# EAGLE library part IRF7809 (library paparazzi3)
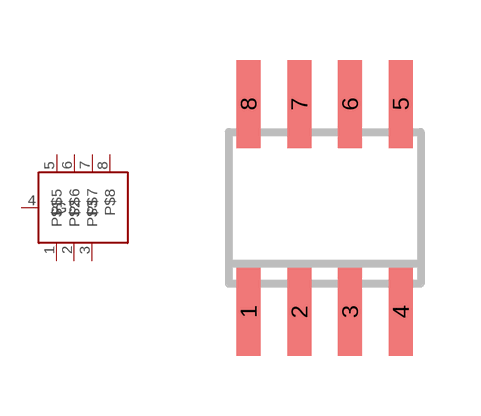
[diagram p14: symbol with the pads of SO08; footprint SO08]

Designator prefix -

## IRF7809  [SO08]
1  P$1
2  P$2
3  P$3
4  G
5  P$5
6  P$6
7  P$7
8  P$8

## Footprint SO08 (pad centres in mm)
Small Outline Package 8
smd 0.6 x 2.2: 1 -1.905,-2.6; 2 -0.635,-2.6; 3 0.635,-2.6; 4 1.905,-2.6; 5 1.905,2.6; 6 0.635,2.6; 7 -0.635,2.6; 8 -1.905,2.6